# Altium footprint library ThermocoupleConnector.PcbLib: 1 footprints
Each footprint in its own frame and in the unit in brackets; x right, y up, seen from the top. Pads: shape width x height; smd on the part's side, far side on the other; paste and mask are expansions set on the pad; w line width, h text height; cw(c..) or ccw(c..) is an arc to the next point about the centre after c.
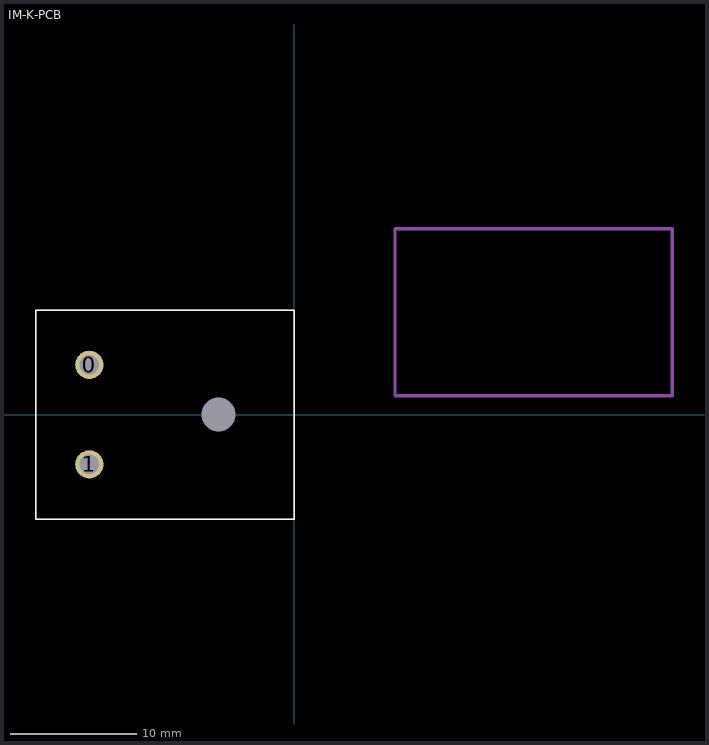
[diagram p0: the footprint, top view; thin cyan lines are the x and y axes]

## IM-K-PCB [mm] "Thermocouple Connector, Socket, Type K, IEC, Miniature, PCB Mount"
height 8
pads (3):
  round 2.25 hole 1.55: 0(-16.25,3.95) 1(-16.25,-3.95)
  round 0 hole 2.7 unplated mask+0: ""(-6,0)
Top Overlay:
  lines w0.1: -20.5,-8.3 -20.5,8.3 0,8.3 0,-8.3 -20.5,-8.3
Mechanical 1:
  lines w0.1: -20.5,-8.3 0,-8.3 0,8.3 -20.5,8.3 -20.5,-8.3
Sheet:
  lines w0.254: 8,1.5 30,1.5 30,14.75 8,14.75 8,1.5
  text "3D STEP file is not correct but footprint is okay" at 8.926,1.5 h1.52
3D body "IM-T-PCB.STEP": height 8.58, standoff -2.98, extent -20.5,-8.3 0,8.3